# EAGLE library part CP2102 (library Bits_library_eagle)
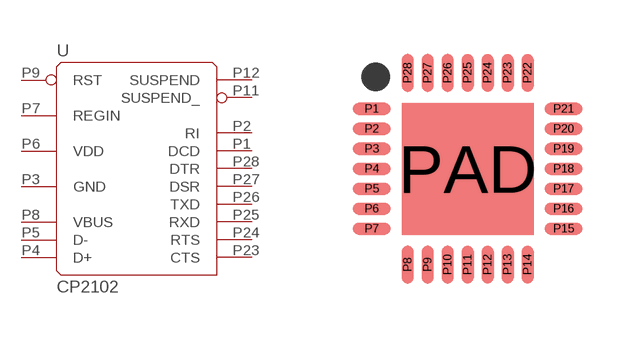
[diagram p17: symbol with the pads of QFN-28; footprint QFN-28]

Designator prefix -

## CP2102  [QFN-28]
P1  DCD
P2  RI
P3  GND  pwr
P4  D+
P5  D-
P6  VDD  pwr
P7  REGIN  pwr
P8  VBUS  pwr
P9  RST
P11  SUSPEND_
P12  SUSPEND
P23  CTS
P24  RTS
P25  RXD
P26  TXD
P27  DSR
P28  DTR

## Footprint QFN-28 (pad centres in mm)
smd 0.95 x 0.3: P1 -2.4,1.5; P2 -2.4,1; P3 -2.4,0.5; P4 -2.4,0; P5 -2.4,-0.5; P6 -2.4,-1; P7 -2.4,-1.5; P15 2.4,-1.5; P16 2.4,-1; P17 2.4,-0.5; P18 2.4,0; P19 2.4,0.5; P20 2.4,1; P21 2.4,1.5
smd 0.3 x 0.95: P8 -1.5,-2.4; P9 -1,-2.4; P10 -0.5,-2.4; P11 0,-2.4; P12 0.5,-2.4; P13 1,-2.4; P14 1.5,-2.4; P22 1.5,2.4; P23 1,2.4; P24 0.5,2.4; P25 0,2.4; P26 -0.5,2.4; P27 -1,2.4; P28 -1.5,2.4
smd 3.3 x 3.3: PAD 0,0